# Altium integrated library ERJ3EKF4122V.IntLib: 1 symbol
Pins are listed as number, name and electrical type; pins without a type are passive.

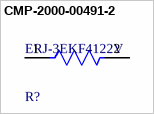
[diagram p0: symbol CMP-2000-00491-2]

## CMP-2000-00491-2
designator R?, comment ERJ-3EKF4122V
NexarPartId: 55421749; Power Rating: 100mW; Temperature Coefficient: 100ppm/°C; Tolerance: 1%; Voltage Rating: 75V; Voltage Rating (DC): 50V; Resistance: 41.2kΩ; Schedule B: 8533210045, 8533210045|8533210045|8533210045|8533210045|8533210045; Case Code (Imperial): 0603; REACH SVHC: No SVHC; Mount: Surface Mount; Min Operating Temperature: -55°C; RoHS: Compliant; Military Standard: Not; Case Code (Metric): 1608; Features: Automotive AEC-Q200; Max Operating Temperature: 155°C; Lifecycle Status: Production; Number of Terminations: 2; Lead Free: Lead Free; Contact Plating: Tin; Length: 1.6mm; Width: 787.4µm; Case/Package: 0603; Termination: SMD/SMT; Max Power Dissipation: 100mW; Packaging: Cut Tape (CT); Depth: 800µm; Height: 558.8µm; Radiation Hardening: No; Composition: Thick Film
footprint FP-ERJ3EK-IPC_C
footprint FP-ERJ3EK-MFG
footprint FP-ERJ3EK-IPC_A
footprint FP-ERJ3EK-IPC_B
pins: 1, 2